# Altium footprint library MainPcblib.PcbLib: 316 footprints (part 2 of 20)
Each footprint in its own frame and in the unit in brackets; x right, y up, seen from the top. Pads: shape width x height; smd on the part's side, far side on the other; paste and mask are expansions set on the pad; w line width, h text height; cw(c..) or ccw(c..) is an arc to the next point about the centre after c.
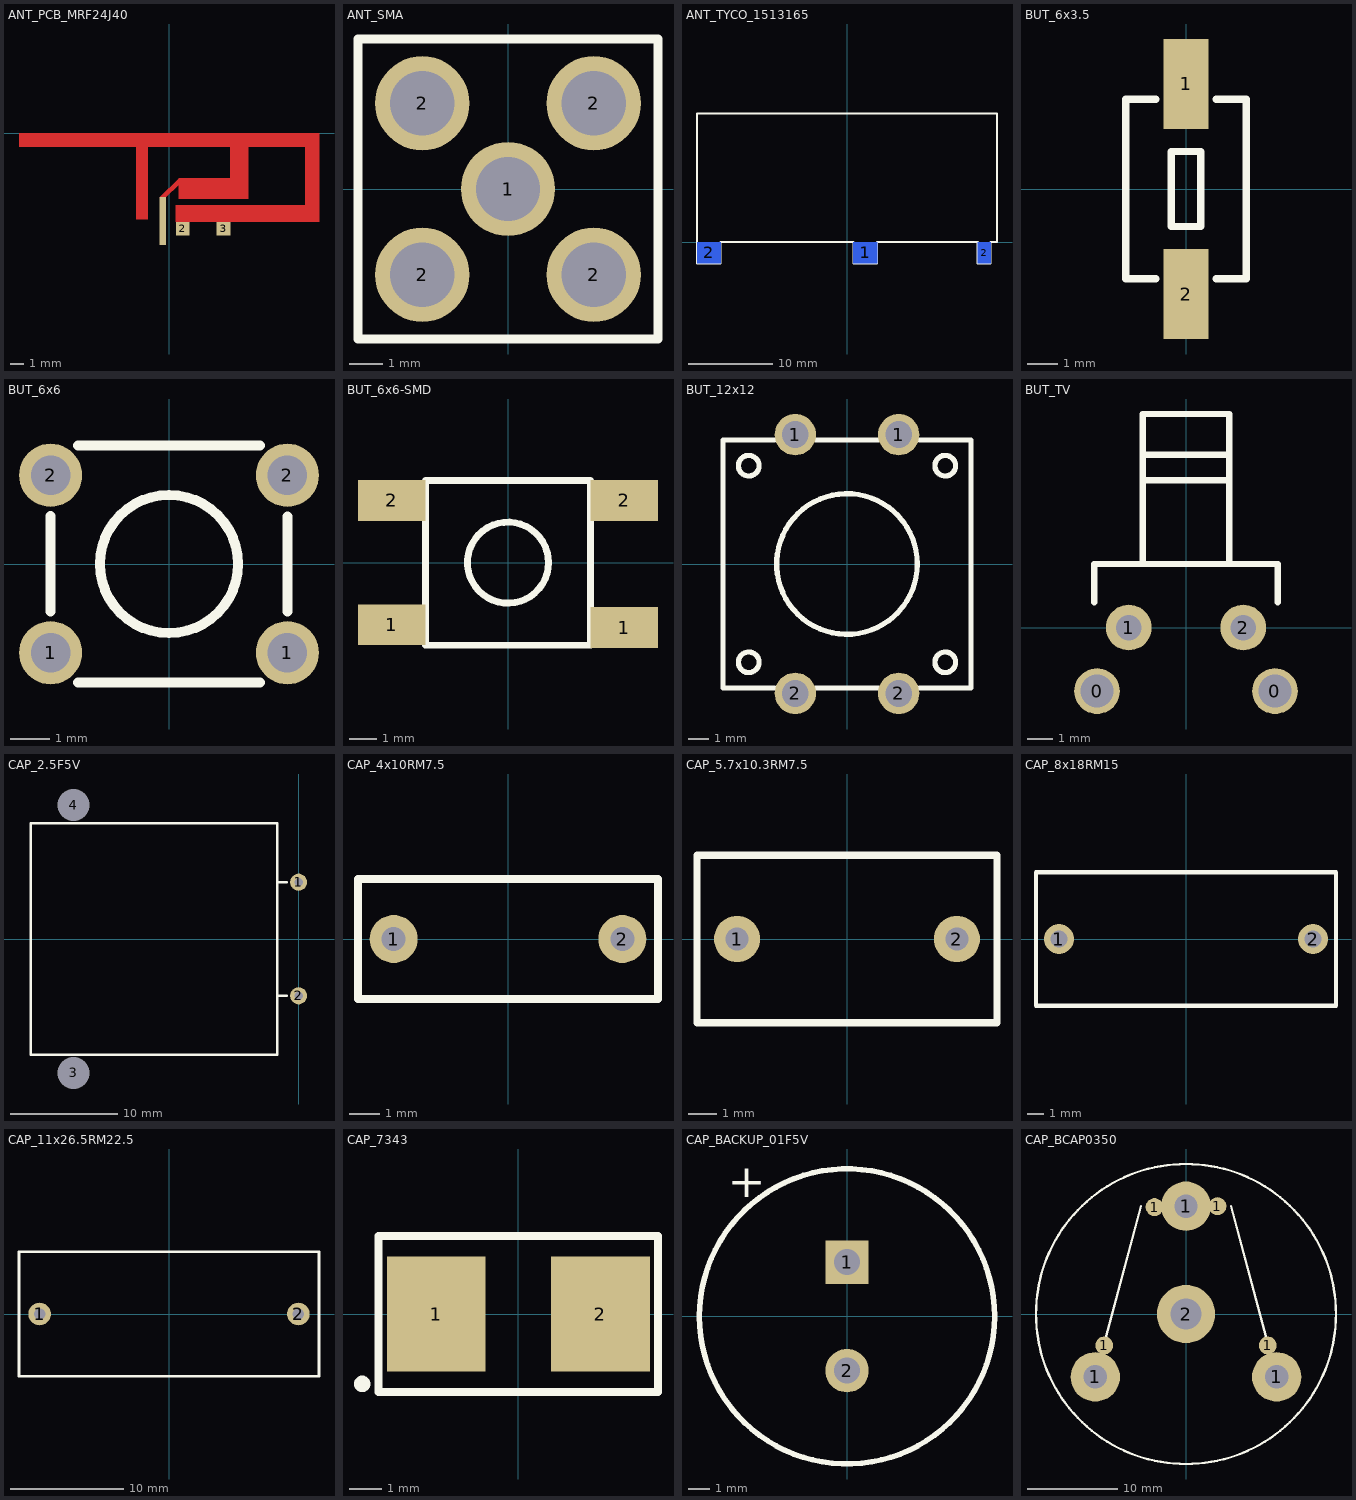
[diagram p1: the footprints below, top view; thin cyan lines are the x and y axes]

## ANT_PCB_MRF24J40 [mm] "PCB Inverted-F antenna"
pads (3):
  rect 0.48x3.5 smd: 1(-0.463,-6.438)
  rect 1x1 smd: 2(1,-7) 3(4,-7)
Top Layer:
  region: -0.7,-4.7 -0.45,-4.95 0.95,-3.55 0.7,-3.3
  region: 11,0 -11,0 -11,-1 -2.4,-1 -2.4,-6.3 -1.55,-6.3 -1.55,-1 4.5,-1 4.5,-3.3 0.7,-3.3 0.7,-4.8 5.8,-4.8 5.8,-1 10,-1 10,-5.3 0.5,-5.3 0.5,-6.5 11,-6.5

## ANT_SMA [mil]
pads (5):
  round 110 hole 75: 1(0,0) 2(-100,-100) 2(-100,100) 2(100,-100) 2(100,100)
Top Overlay:
  lines w10: -175,-175 -175,175 175,175 175,-175 -175,-175

## ANT_TYCO_1513165 [mil]
height 59.06
pads (3):
  rect 110x100 smd far side: 1(85,-50) 2(-645,-50)
  rect 60x100 smd far side: 2(640,-50)
Top Overlay:
  lines w10: -700,-100 -700,600 700,600 700,0 670,0 670,-100 610,-100 610,0 140,0 140,-100 30,-100 30,0 -590,0 -590,-100 -700,-100

## BUT_6x3.5 [mm] "Tactile button 6x3.5 SMD"
height 4.3
pads (2):
  rect 1.5x3 smd: 1(0,3.5) 2(0,-3.5)
Top Overlay:
  lines w0.25: -1,-3 -2,-3 -2,3 -1,3 ; 1,-3 2,-3 2,3 1,3 ; -0.5,-1.25 -0.5,1.25 0.5,1.25 0.5,-1.25 0.25,-1.25 -0.5,-1.25

## BUT_6x6 [mm] "TS-06"
pads (4):
  round 1.6 hole 1: 1(-3,-2.25) 1(3,-2.25) 2(-3,2.25) 2(3,2.25)
Top Overlay:
  circle w0.254: c0,0 r1.75
  lines w0.254: -3,-1.2 -3,1.22 ; -2.3,-3 2.3,-3 ; -2.3,3 2.3,3 ; 3,-1.2 3,1.2

## BUT_6x6-SMD [mm]
pads (4):
  rect 2.5x1.5 smd: 1(-4.3,-2.3) 1(4.3,-2.4) 2(-4.3,2.3) 2(4.3,2.3)
Top Overlay:
  circle w0.254: c0,0 r1.5
  lines w0.254: -3.046,-3.058 -3.046,3.038 3.05,3.038 3.05,-3.058 -3.046,-3.058

## BUT_12x12 [mm] "Tactile button 12x12"
height 4.3
pads (4):
  round 2 hole 1.3: 1(-2.5,6.25) 1(2.5,6.25) 2(-2.5,-6.25) 2(2.5,-6.25)
Top Overlay:
  circle w0.254: c4.75,4.75 r0.5
  circle w0.254: c4.75,-4.75 r0.5
  circle w0.254: c-4.75,-4.75 r0.5
  circle w0.254: c-4.75,4.75 r0.5
  circle w0.254: c0,0 r3.4
  lines w0.25: -3.5,-6 -6,-6 -6,6 -3.5,6 ; -1.5,-6 1.5,-6 ; -1.5,6 1.5,6 ; 3.5,-6 6,-6 6,6 3.5,6

## BUT_TV [mm] "button_angle"
pads (4):
  round 1.8 hole 1.3: 0(-3.5,-2.5) 0(3.5,-2.5)
  round 1.8 hole 1: 1(-2.25,0) 2(2.25,0)
Top Overlay:
  lines w0.254: -3.6,1 -3.6,2.5 3.6,2.5 3.6,1 ; -1.7,2.6 -1.7,3.2 -1.7,8.4 1.7,8.4 1.7,3.1 1.7,2.5 ; -1.7,5.8 1.7,5.8 ; -1.7,6.8 1.7,6.8

## CAP_2.5F5V [mm] "Supercap 2.5F 5V"
height 12
pads (4):
  round 1.6 hole 0.8: 1(0,5.3) 2(0,-5.3)
  round 1.6 hole 3: 3(-21,-12.5) 4(-21,12.5)
Top Overlay:
  lines w0.254: -2,-5.3 -1.1,-5.3 ; -2,5.3 -1.1,5.3 ; -25,-10.8 -2,-10.8 -2,10.8 -25,10.8 -25,-10.8

## CAP_4x10RM7.5 [mm]
pads (2):
  round 1.6 hole 0.8: 1(-3.81,0) 2(3.81,0)
Top Overlay:
  lines w0.254: -5,-2 5,-2 5,2 -5,2 -5,-2

## CAP_5.7x10.3RM7.5 [mm]
pads (2):
  round 1.6 hole 0.8: 1(-3.81,0) 2(3.81,0)
Top Overlay:
  lines w0.254: -5.2,-2.9 5.2,-2.9 5.2,2.9 -5.2,2.9 -5.2,-2.9

## CAP_8x18RM15 [mm]
height 16
pads (2):
  round 1.8 hole 1: 1(-7.62,0) 2(7.62,0)
Top Overlay:
  lines w0.254: -9,-4 9,-4 9,4 -9,4 -9,-4

## CAP_11x26.5RM22.5 [mm]
pads (2):
  round 2 hole 1: 1(-11.43,0) 2(11.43,0)
Top Overlay:
  lines w0.254: -13.25,-5.5 -13.25,5.5 13.25,5.5 13.25,-5.5 -13.25,-5.5

## CAP_7343 [mil] "SMD tantalum capacitor"
height 157.48
pads (2):
  rect 120x140 smd: 1(-100,0) 2(100,0)
Top Overlay:
  circle w10: c-190,-85 r5
  lines w10: -170,-95 170,-95 170,95 -170,95 -170,-95

## CAP_BACKUP_01F5V [mm] "Comet CMB 0.1F 5.5V"
pads (2):
  rect 2x2 hole 1.2: 1(0,2.5)
  round 2 hole 1.2: 2(0,-2.5)
Top Overlay:
  circle w0.254: c0,0 r6.8
  text "+" at -5.5,5.5 h1.52

## CAP_BCAP0350 [mm] "Maxwell supercap"
pads (8):
  round 5.5 hole 2.6: 1(-10.1,-7) 1(0,12) 1(10.1,-7)
  round 2 smd: 1(-9.1,-3.5) 1(-3.5,11.9) 1(3.5,12) 1(9.1,-3.5)
  round 6.5 hole 3.5: 2(0,0)
Top Overlay:
  circle w0.254: c0,0 r16.7
  lines w0.254: -10.1,-7 -5,12 ; 5,12 10.1,-7